# EAGLE library part PCF8575 (library SquantorNxp)
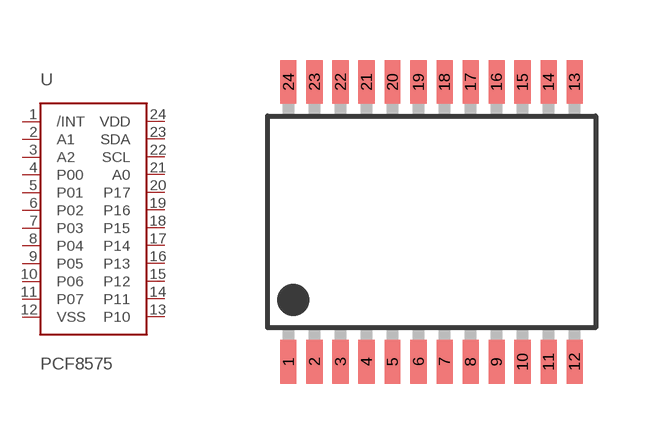
[diagram p8: symbol with the pads of SOT340; footprint SOT340]

Designator prefix -

## PCF8575  [SOT340]
1  /INT
2  A1
3  A2
4  P00
5  P01
6  P02
7  P03
8  P04
9  P05
10  P06
11  P07
12  VSS
13  P10
14  P11
15  P12
16  P13
17  P14
18  P15
19  P16
20  P17
21  A0
22  SCL
23  SDA
24  VDD

## Footprint SOT340 (pad centres in mm)
SOT340 SSOP24: plastic shrink small outline package; 24 leads; body width 5.3 mm JEDEC: MO-150 IEC: --
smd 0.4 x 1.1: 1 -3.575,-3.5; 2 -2.925,-3.5; 3 -2.275,-3.5; 4 -1.625,-3.5; 5 -0.975,-3.5; 6 -0.325,-3.5; 7 0.325,-3.5; 8 0.975,-3.5; 9 1.625,-3.5; 10 2.275,-3.5; 11 2.925,-3.5; 12 3.575,-3.5; 13 3.575,3.5; 14 2.925,3.5; 15 2.275,3.5; 16 1.625,3.5; 17 0.975,3.5; 18 0.325,3.5; 19 -0.325,3.5; 20 -0.975,3.5; 21 -1.625,3.5; 22 -2.275,3.5; 23 -2.925,3.5; 24 -3.575,3.5